# Altium schematic symbol library 2201830.SchLib: 1 symbol
Pins are listed as number, name and electrical type; pins without a type are passive.

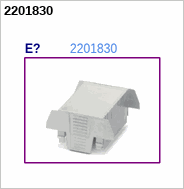
[diagram p0: symbol 2201830]

## 2201830
designator E?  Manufacturer Part Number: 2201830  (hidden comment: *)